# EAGLE library part CA04-41 (library display-kingbright)
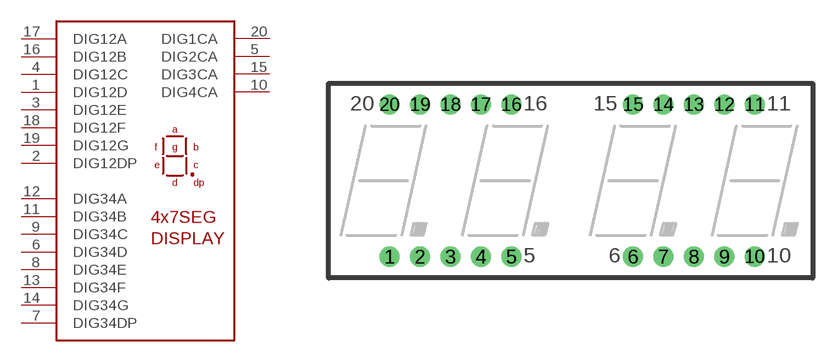
[diagram p2: symbol with the pads of 4SEG-CA04-41WA; footprint 4SEG-CA04-41WA]

Designator prefix -

## CA04-41  [4SEG-CA04-41WA]
1  DIG12D
2  DIG12DP
3  DIG12E
4  DIG12C
5  DIG2CA
6  DIG34D
7  DIG34DP
8  DIG34E
9  DIG34C
10  DIG4CA
11  DIG34B
12  DIG34A
13  DIG34F
14  DIG34G
15  DIG3CA
16  DIG12B
17  DIG12A
18  DIG12F
19  DIG12G
20  DIG1CA

## Footprint 4SEG-CA04-41WA (pad centres in mm)
drill 0.7 pad 1.676 round: 1 -15.24,-6.35; 2 -12.7,-6.35; 3 -10.16,-6.35; 4 -7.62,-6.35; 5 -5.08,-6.35; 6 5.08,-6.35; 7 7.62,-6.35; 8 10.16,-6.35; 9 12.7,-6.35; 10 15.24,-6.35; 11 15.24,6.35; 12 12.7,6.35; 13 10.16,6.35; 14 7.62,6.35; 15 5.08,6.35; 16 -5.08,6.35; 17 -7.62,6.35; 18 -10.16,6.35; 19 -12.7,6.35; 20 -15.24,6.35